# EAGLE library part PIC16F630_SIMPLE (library snes_div)
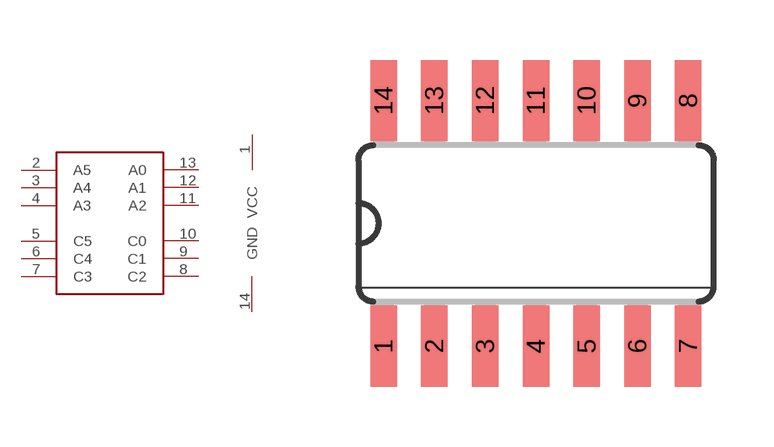
[diagram p4: symbol with the pads of PIC16F630; footprint PIC16F630]

Designator prefix -; gates G$1=PIC16F630_SIMPLE G$2=PWR

## PIC16F630_SIMPLE  [PIC16F630]
1  G$2:VCC
2  G$1:A5
3  G$1:A4
4  G$1:A3
5  G$1:C5
6  G$1:C4
7  G$1:C3
8  G$1:C2
9  G$1:C1
10  G$1:C0
11  G$1:A2
12  G$1:A1
13  G$1:A0
14  G$2:GND

## Footprint PIC16F630 (pad centres in mm)
smd 0.66 x 2.032: 1 -3.81,-3.073; 2 -2.54,-3.073; 3 -1.27,-3.073; 4 0,-3.073; 5 1.27,-3.073; 6 2.54,-3.073; 7 3.81,-3.073; 8 3.81,3.073; 9 2.54,3.073; 10 1.27,3.073; 11 0,3.073; 12 -1.27,3.073; 13 -2.54,3.073; 14 -3.81,3.073